# Altium footprint library PcbLib2.PcbLib: 9 footprints
Each footprint in its own frame and in the unit in brackets; x right, y up, seen from the top. Pads: shape width x height; smd on the part's side, far side on the other; paste and mask are expansions set on the pad; w line width, h text height; cw(c..) or ccw(c..) is an arc to the next point about the centre after c.
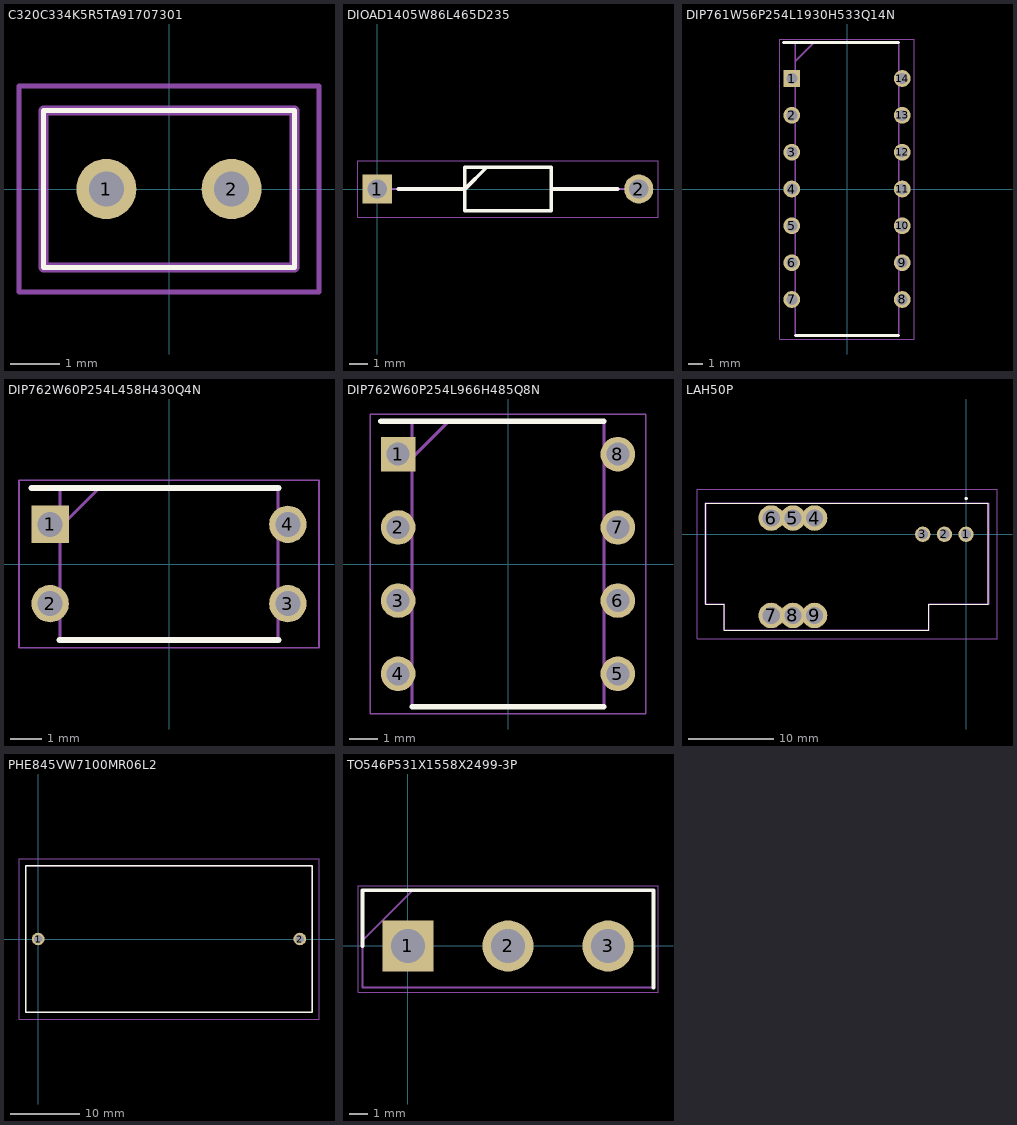
[diagram p0: the footprints below, top view; thin cyan lines are the x and y axes]

## C320C334K5R5TA91707301 [mm]
pads (2):
  round 1.217 hole 0.71: 1(-1.27,0) 2(1.27,0)
Top Overlay:
  lines w0.1: -2.54,-1.59 -2.54,1.59 2.54,1.59 2.54,-1.59 -2.54,-1.59
Mechanical 13:
  lines w0.2: -2.54,-1.59 -2.54,1.59 2.54,1.59 2.54,-1.59 -2.54,-1.59
Mechanical 15:
  lines w0.1: -3.04,-2.09 -3.04,2.09 3.04,2.09 3.04,-2.09 -3.04,-2.09
3D body "C320C334K5R5TA91707301.stp": height 5.51, standoff -17.5, extent -2.54,-1.595 2.54,1.59

## DIOAD1405W86L465D235 [mm]
pads (2):
  rect 1.575x1.575 hole 1.05: 1(0,0)
  round 1.575 hole 1.05: 2(14.1,0)
Top Overlay:
  lines w0.2: 1.138,0 4.725,0 5.9,1.175 ; 9.375,0 12.962,0 ; 4.725,-1.175 4.725,1.175 9.375,1.175 9.375,-1.175 4.725,-1.175
Mechanical 13:
  lines w0.1: 0,0 4.725,0 5.9,1.175 ; 9.375,0 14.1,0 ; 4.725,-1.175 4.725,1.175 9.375,1.175 9.375,-1.175 4.725,-1.175
Mechanical 15:
  lines w0.05: -1.038,-1.525 -1.038,1.525 15.137,1.525 15.137,-1.525 -1.038,-1.525
3D body "UF4007-E3_54.stp": height 2.69, standoff -2.7, extent -0.427,-1.347 14.48,1.347

## DIP761W56P254L1930H533Q14N [mm]
pads (14):
  rect 1.158x1.158 hole 0.758: 1(-3.805,7.62)
  round 1.158 hole 0.758: 2(-3.805,5.08) 3(-3.805,2.54) 4(-3.805,0) 5(-3.805,-2.54) 6(-3.805,-5.08) 7(-3.805,-7.62) 8(3.805,-7.62) 9(3.805,-5.08) 10(3.805,-2.54) 11(3.805,0) 12(3.805,2.54) 13(3.805,5.08) 14(3.805,7.62)
Top Overlay:
  lines w0.2: -4.384,10.095 3.555,10.095 ; -3.555,-10.095 3.555,-10.095
Mechanical 13:
  lines w0.1: -3.555,8.825 -2.285,10.095 ; -3.555,-10.095 3.555,-10.095 3.555,10.095 -3.555,10.095 -3.555,-10.095
Mechanical 15:
  lines w0.05: -4.639,-10.345 4.639,-10.345 4.639,10.345 -4.639,10.345 -4.639,-10.345
3D body "IR2110PBF.stp": height 5.33, standoff -3.5, extent -3.945,-9.653 3.945,9.653

## DIP762W60P254L458H430Q4N [mm]
pads (4):
  rect 1.2x1.2 hole 0.8: 1(-3.81,1.27)
  round 1.2 hole 0.8: 2(-3.81,-1.27) 3(3.81,-1.27) 4(3.81,1.27)
Top Overlay:
  lines w0.2: -4.41,2.44 3.5,2.44 ; -3.5,-2.44 3.5,-2.44
Mechanical 13:
  lines w0.1: -3.5,1.17 -2.23,2.44 ; -3.5,-2.44 -3.5,2.44 3.5,2.44 3.5,-2.44 -3.5,-2.44
Mechanical 15:
  lines w0.05: -4.81,-2.69 -4.81,2.69 4.81,2.69 4.81,-2.69 -4.81,-2.69
3D body "VO618A.stp": height 4.3, standoff -3.5, extent -3.96,-2.29 3.96,2.29

## DIP762W60P254L966H485Q8N [mm]
pads (8):
  rect 1.2x1.2 hole 0.8: 1(-3.81,3.81)
  round 1.2 hole 0.8: 2(-3.81,1.27) 3(-3.81,-1.27) 4(-3.81,-3.81) 5(3.81,-3.81) 6(3.81,-1.27) 7(3.81,1.27) 8(3.81,3.81)
Top Overlay:
  lines w0.2: -4.41,4.955 3.325,4.955 ; -3.325,-4.955 3.325,-4.955
Mechanical 13:
  lines w0.1: -3.325,3.685 -2.055,4.955 ; -3.325,-4.955 -3.325,4.955 3.325,4.955 3.325,-4.955 -3.325,-4.955
Mechanical 15:
  lines w0.05: -4.785,-5.205 -4.785,5.205 4.785,5.205 4.785,-5.205 -4.785,-5.205
3D body "TLP350_TP1,F_.stp": height 4.85, standoff -3.5, extent -3.96,-4.83 3.96,4.83

## LAH50P [mm]
pads (9):
  round 1.8 hole 1.2: 1(0,0) 2(-2.54,0) 3(-5.08,0)
  round 3 hole 2: 4(-17.78,1.905) 5(-20.32,1.905) 6(-22.86,1.905) 7(-22.86,-9.525) 8(-20.32,-9.525) 9(-17.78,-9.525)
Top Overlay:
  lines w0.1: -30.57,-8.215 -30.57,3.655 2.63,3.655 2.63,-8.215 -4.37,-8.215 -4.37,-11.275 -28.37,-11.275 -28.37,-8.215 -30.39,-8.215 -30.57,-8.215
  lines w0.2: -0.1,4.2 cw(c0,4.2) 0.1,4.2 cw(c0,4.2) -0.1,4.2
Mechanical 13:
  lines w0.2: -30.57,-8.215 -28.37,-8.215 -28.37,-11.275 -4.37,-11.275 -4.37,-8.215 2.63,-8.215 2.63,3.655 -30.57,3.655 -30.57,-8.215
Mechanical 15:
  lines w0.1: -31.57,-12.275 -31.57,5.3 3.63,5.3 3.63,-12.275 -31.57,-12.275
3D body "LAH_50-P.stp": height 21.25, standoff -5, extent -30.57,-11.275 2.63,3.655

## PCBComponent_1 [mm]

## PHE845VW7100MR06L2 [mm]
pads (2):
  round 1.8 hole 1.2: 1(0,0) 2(37.5,0)
Top Overlay:
  lines w0.2: -1.75,-10.5 -1.75,10.5 39.25,10.5 39.25,-10.5 -1.75,-10.5
Mechanical 13:
  lines w0.1: -1.75,-10.5 -1.75,10.5 39.25,10.5 39.25,-10.5 -1.75,-10.5
Mechanical 15:
  lines w0.1: -2.75,-11.5 -2.75,11.5 40.25,11.5 40.25,-11.5 -2.75,-11.5
3D body "PHE845VW7100MR06L2.stp": height 38, standoff -5, extent -1.75,-10.505 39.25,10.5

## TO546P531X1558X2499-3P [mm]
pads (3):
  rect 2.79x2.79 hole 1.86: 1(0,0)
  round 2.79 hole 1.86: 2(5.46,0) 3(10.92,0)
Top Overlay:
  lines w0.2: -2.475,0 -2.475,3.035 13.395,3.035 13.395,-2.275
Mechanical 13:
  lines w0.1: -2.475,0.305 0.255,3.035 ; -2.475,-2.275 -2.475,3.035 13.395,3.035 13.395,-2.275 -2.475,-2.275
Mechanical 15:
  lines w0.05: -2.725,-2.525 -2.725,3.285 13.645,3.285 13.645,-2.525 -2.725,-2.525
3D body "IRFP2907PBF.stp": height 24.2, standoff -40.41, extent -2.33,-2.275 13.25,3.035